# EAGLE library part PIC32MK1024MCF100_SIMPLE (library mestrado)
Microchip Technology MCU32, 120MHz, 4 I2C, 6 I2S, USB FS, CAN 2.0B, 12-bit ADC, Motor Control Source: Datasheet <https://componentsearchengine.com/Datasheets/1/PIC32MK1024MCF100-I_PT.pdf>
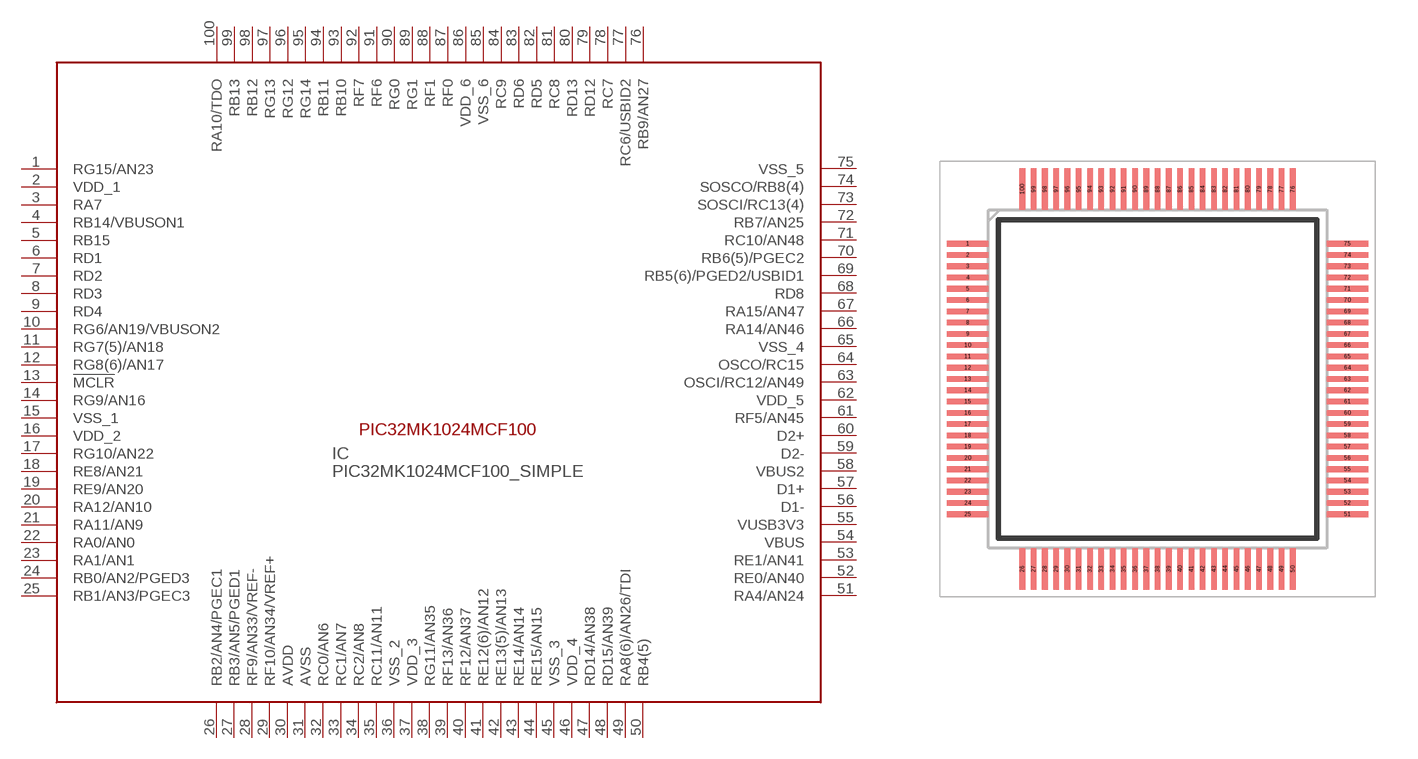
[diagram p5: symbol with the pads of QFP40P1400X1400X120-100N; footprint QFP40P1400X1400X120-100N]

Designator prefix IC

## PIC32MK1024MCF100_SIMPLE (DESCRIPTION: Microchip Technology MCU32, 120MHz, 4 I2C, 6 I2S, USB FS, CAN 2.0B, 12-bit ADC, Motor Control; HEIGHT: 1.2mm; MANUFACTURER_NAME: Microchip; MANUFACTURER_PART_NUMBER: PIC32MK1024MCF100-I/PT; MOUSER_PART_NUMBER: 579-2MK1024MCF100IPT)  [QFP40P1400X1400X120-100N]
1  RG15/AN23
2  VDD_1
3  RA7
4  RB14/VBUSON1
5  RB15
6  RD1
7  RD2
8  RD3
9  RD4
10  RG6/AN19/VBUSON2
11  RG7(5)/AN18
12  RG8(6)/AN17
13  !MCLR
14  RG9/AN16
15  VSS_1
16  VDD_2
17  RG10/AN22
18  RE8/AN21
19  RE9/AN20
20  RA12/AN10
21  RA11/AN9
22  RA0/AN0
23  RA1/AN1
24  RB0/AN2/PGED3
25  RB1/AN3/PGEC3
26  RB2/AN4/PGEC1
27  RB3/AN5/PGED1
28  RF9/AN33/VREF-
29  RF10/AN34/VREF+
30  AVDD
31  AVSS
32  RC0/AN6
33  RC1/AN7
34  RC2/AN8
35  RC11/AN11
36  VSS_2
37  VDD_3
38  RG11/AN35
39  RF13/AN36
40  RF12/AN37
41  RE12(6)/AN12
42  RE13(5)/AN13
43  RE14/AN14
44  RE15/AN15
45  VSS_3
46  VDD_4
47  RD14/AN38
48  RD15/AN39
49  RA8(6)/AN26/TDI
50  RB4(5)
51  RA4/AN24
52  RE0/AN40
53  RE1/AN41
54  VBUS
55  VUSB3V3
56  D1-
57  D1+
58  VBUS2
59  D2-
60  D2+
61  RF5/AN45
62  VDD_5
63  OSCI/RC12/AN49
64  OSCO/RC15
65  VSS_4
66  RA14/AN46
67  RA15/AN47
68  RD8
69  RB5(6)/PGED2/USBID1
70  RB6(5)/PGEC2
71  RC10/AN48
72  RB7/AN25
73  SOSCI/RC13(4)
74  SOSCO/RB8(4)
75  VSS_5
76  RB9/AN27
77  RC6/USBID2
78  RC7
79  RD12
80  RD13
81  RC8
82  RD5
83  RD6
84  RC9
85  VSS_6
86  VDD_6
87  RF0
88  RF1
89  RG1
90  RG0
91  RF6
92  RF7
93  RB10
94  RB11
95  RG14
96  RG12
97  RG13
98  RB12
99  RB13
100  RA10/TDO

## Footprint QFP40P1400X1400X120-100N (pad centres in mm)
100-(PT) Quad Flatpack
smd 1.475 x 0.2: 1 -6.738,4.8; 2 -6.738,4.4; 3 -6.738,4; 4 -6.738,3.6; 5 -6.738,3.2; 6 -6.738,2.8; 7 -6.738,2.4; 8 -6.738,2; 9 -6.738,1.6; 10 -6.738,1.2; 11 -6.738,0.8; 12 -6.738,0.4; 13 -6.738,0; 14 -6.738,-0.4; 15 -6.738,-0.8; 16 -6.738,-1.2; 17 -6.738,-1.6; 18 -6.738,-2; 19 -6.738,-2.4; 20 -6.738,-2.8; 21 -6.738,-3.2; 22 -6.738,-3.6; 23 -6.738,-4; 24 -6.738,-4.4; 25 -6.738,-4.8; 51 6.738,-4.8; 52 6.738,-4.4; 53 6.738,-4; 54 6.738,-3.6; 55 6.738,-3.2; 56 6.738,-2.8; 57 6.738,-2.4; 58 6.738,-2; 59 6.738,-1.6; 60 6.738,-1.2; 61 6.738,-0.8; 62 6.738,-0.4; 63 6.738,0; 64 6.738,0.4; 65 6.738,0.8; 66 6.738,1.2; 67 6.738,1.6; 68 6.738,2; 69 6.738,2.4; 70 6.738,2.8; 71 6.738,3.2; 72 6.738,3.6; 73 6.738,4; 74 6.738,4.4; 75 6.738,4.8
smd 0.2 x 1.475: 26 -4.8,-6.738; 27 -4.4,-6.738; 28 -4,-6.738; 29 -3.6,-6.738; 30 -3.2,-6.738; 31 -2.8,-6.738; 32 -2.4,-6.738; 33 -2,-6.738; 34 -1.6,-6.738; 35 -1.2,-6.738; 36 -0.8,-6.738; 37 -0.4,-6.738; 38 0,-6.738; 39 0.4,-6.738; 40 0.8,-6.738; 41 1.2,-6.738; 42 1.6,-6.738; 43 2,-6.738; 44 2.4,-6.738; 45 2.8,-6.738; 46 3.2,-6.738; 47 3.6,-6.738; 48 4,-6.738; 49 4.4,-6.738; 50 4.8,-6.738; 76 4.8,6.738; 77 4.4,6.738; 78 4,6.738; 79 3.6,6.738; 80 3.2,6.738; 81 2.8,6.738; 82 2.4,6.738; 83 2,6.738; 84 1.6,6.738; 85 1.2,6.738; 86 0.8,6.738; 87 0.4,6.738; 88 0,6.738; 89 -0.4,6.738; 90 -0.8,6.738; 91 -1.2,6.738; 92 -1.6,6.738; 93 -2,6.738; 94 -2.4,6.738; 95 -2.8,6.738; 96 -3.2,6.738; 97 -3.6,6.738; 98 -4,6.738; 99 -4.4,6.738; 100 -4.8,6.738